# EAGLE library part STP16C596M (library STP16C596M)
LED Display Drivers 16-Bit Curr LED Sink Source: Datasheet <https://ms.componentsearchengine.com/Datasheets/1/STP16C596M.pdf>
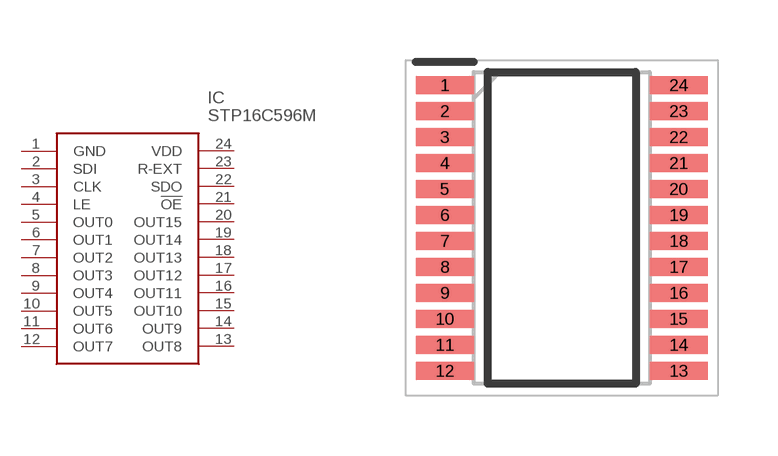
[diagram p0: symbol with the pads of SOP65P638X110-24N; footprint SOP65P638X110-24N]

Designator prefix IC

## STP16C596M (Description: LED Display Drivers 16-Bit Curr LED Sink; Height: 1.1mm; Manufacturer_Name: STMicroelectronics; Manufacturer_Part_Number: STP16C596M)  [SOP65P638X110-24N]
1  GND  pwr
2  SDI  in
3  CLK  in
4  LE  in
5  OUT0  out
6  OUT1  out
7  OUT2  out
8  OUT3  out
9  OUT4  out
10  OUT5  out
11  OUT6  out
12  OUT7  out
13  OUT8  out
14  OUT9  out
15  OUT10  out
16  OUT11  out
17  OUT12  out
18  OUT13  out
19  OUT14
20  OUT15
21  !OE  in
22  SDO  out
23  R-EXT  in
24  VDD

## Footprint SOP65P638X110-24N (pad centres in mm)
TSSOP24
smd 1.45 x 0.45: 1 -2.925,3.575; 2 -2.925,2.925; 3 -2.925,2.275; 4 -2.925,1.625; 5 -2.925,0.975; 6 -2.925,0.325; 7 -2.925,-0.325; 8 -2.925,-0.975; 9 -2.925,-1.625; 10 -2.925,-2.275; 11 -2.925,-2.925; 12 -2.925,-3.575; 13 2.925,-3.575; 14 2.925,-2.925; 15 2.925,-2.275; 16 2.925,-1.625; 17 2.925,-0.975; 18 2.925,-0.325; 19 2.925,0.325; 20 2.925,0.975; 21 2.925,1.625; 22 2.925,2.275; 23 2.925,2.925; 24 2.925,3.575